# Altium schematic symbol library 47553-0001.SchLib: 1 symbol
Pins are listed as number, name and electrical type; pins without a type are passive.

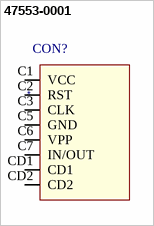
[diagram p0: symbol 47553-0001]

## 47553-0001
designator CON?
ID: 47553-0001; PDF: http://www.tme.eu/pl/Document/e38dab5d37c6025780be60d3747bef04/MX-47553-0001.pdf; PRICE: 5,20 z³; BUY_LINK: http://www.tme.eu/pl/details/mx-47553-0001/zlacza-do-kart/molex/47553-0001/#t4d68c54e3b538d80230f375739309971
footprint 47553-0001
pins: C1 VCC, C2 RST, C3 CLK, C5 GND, C6 VPP, C7 IN/OUT, CD1, CD2